# Altium schematic symbol library 继电器.SchLib: 4 symbols
Pins are listed as number, name and electrical type; pins without a type are passive.

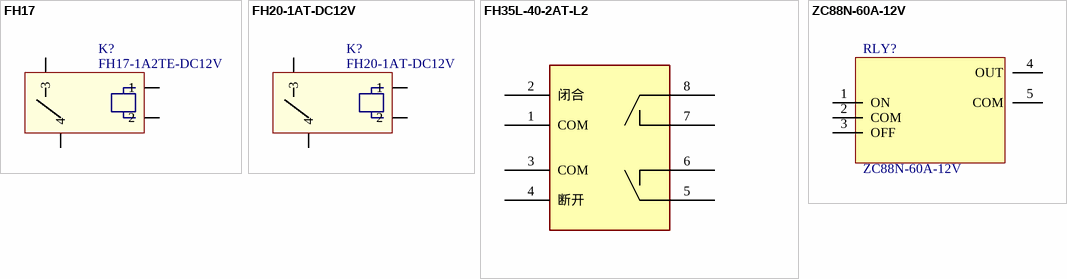
[diagram p0: symbols FH17 to ZC88N-60A-12V]

## FH17
designator K?, comment FH17-1A2TE-DC12V
插件继电器 16A 12V; 厂家: FH; 金蝶料号: 010106010006; 插件/贴片: 插件; 器件状态: 启用; 厂家型号: FH17-1A2TE-DC12V; 工作温度: *; 值: FH17-1A2TE-DC12V
footprint FH17 (16A继电器封装)
pins: 1, 2, 3, 4

## FH20-1AT-DC12V
designator K?
插件继电器 32A 12V; 厂家: FH; 金蝶料号: 010106010016; 插件/贴片: 插件; 器件状态: 启用; 厂家型号: FH20-1AT-DC12V; 工作温度: *; 值: 32A
footprint FH20
pins: 1, 2, 3, 4

## FH35L-40-2AT-L2
designator K?
磁保持继电器12V 双路 40A; 厂家: FH; 金蝶料号: 010106010011; 插件/贴片: 插件; 器件状态: 启用; 厂家型号: FH35L-40-2AT-L2; 工作温度: *; 值: FH35L-40-2AT-L2; ComponentLink1Description: New link; ComponentLink1URL: *
footprint FH35L-40 (30*20*10mm)
pins: 1 COM, 2 闭合, 3 COM, 4 断开, 5, 6, 7, 8

## ZC88N-60A-12V
designator RLY?
60A磁保持继电器; 金蝶料号: 010106030001; 插件/贴片: 插件; 厂家: 厂家; 型号: ZC88N-60A-12V; 工作温度: *
footprint ZC88N
pins: 1 ON, 2 COM, 3 OFF, 4 OUT, 5 COM